# EAGLE library part MT2_RELAY (library Relay)
MT2_Relay, 12V, 2 Umschalter
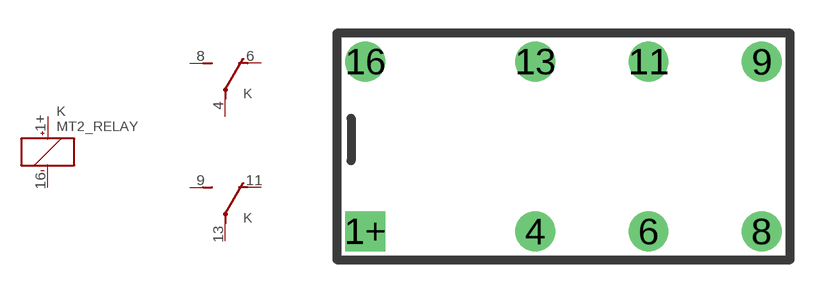
[diagram p2: symbol with the pads of MT2; footprint MT2]

Designator prefix K; gates MT2_COIL=MT2_SPULE MT2_SWITCH=MT2_SCHALTER MT2_SWITCH2=MT2_SCHALTER

## MT2_RELAY  [MT2]
1+  MT2_COIL:+  pas
4  MT2_SWITCH:P  pas
6  MT2_SWITCH:O  pas
8  MT2_SWITCH:S  pas
9  MT2_SWITCH2:S  pas
11  MT2_SWITCH2:O  pas
13  MT2_SWITCH2:P  pas
16  MT2_COIL:-  pas

## Footprint MT2 (pad centres in mm)
drill 0.8 pad 1.778 square: 1+ -10.16,-3.81
drill 0.8 pad 1.778: 4 -2.54,-3.81; 6 2.54,-3.81; 8 7.62,-3.81; 9 7.62,3.81; 11 2.54,3.81; 13 -2.54,3.81; 16 -10.16,3.81